# Altium footprint library 3pos180connector.PcbLib: 1 footprints
Each footprint in its own frame and in the unit in brackets; x right, y up, seen from the top. Pads: shape width x height; smd on the part's side, far side on the other; paste and mask are expansions set on the pad; w line width, h text height; cw(c..) or ccw(c..) is an arc to the next point about the centre after c.
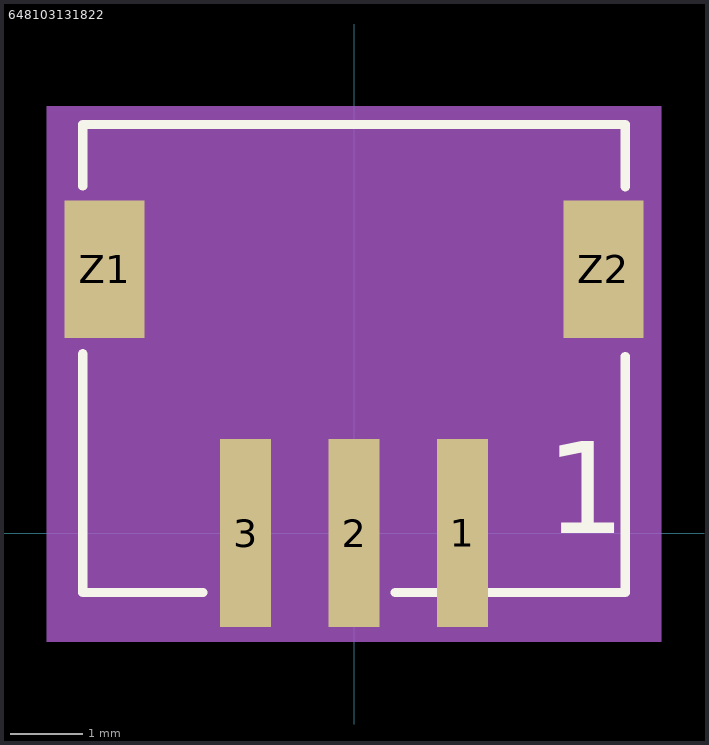
[diagram p0: the footprint, top view; thin cyan lines are the x and y axes]

## 648103131822 [mm]
pads (5):
  rect 0.7x2.6 smd: 1(1.5,0) 2(0,0) 3(-1.5,0)
  rect 1.1x1.9 smd: Z1(-3.45,3.65) Z2(3.45,3.65)
Top Overlay:
  lines w0.127: -3.75,2.48 -3.75,-0.82 -2.09,-0.82 ; -3.75,4.8 -3.75,5.65 3.75,5.65 3.75,4.79 ; 0.57,-0.82 3.75,-0.82 3.75,2.44
  text "1" at 2.655,0 h1.27
Mechanical 13:
  lines w0.127: -3.75,-0.82 3.75,-0.82 3.75,5.65 -3.75,5.65 -3.75,-0.82
  text "1" at 2.655,0 h1.27
Mechanical 15:
  region: 4.25,-1.5 -4.25,-1.5 -4.25,5.9 4.25,5.9